# EAGLE library part TRRS-JACK (library Fuzzy)
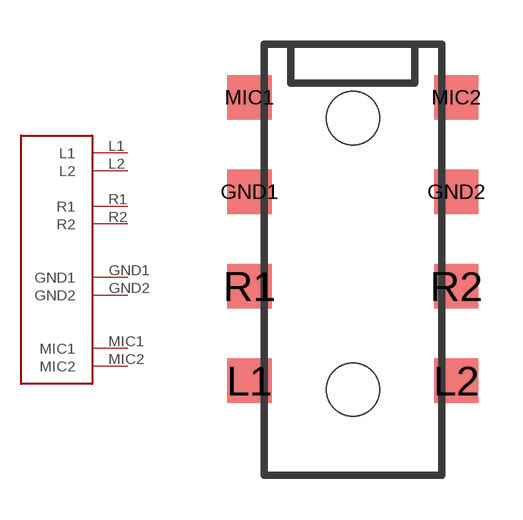
[diagram p7: symbol with the pads of TRRS-JACK; footprint TRRS-JACK]

Designator prefix -

## TRRS-JACK  [TRRS-JACK]
GND1  GND1
GND2  GND2
L1  L1
L2  L2
MIC1  MIC1
MIC2  MIC2
R1  R1
R2  R2

## Footprint TRRS-JACK (pad centres in mm)
smd 1.5 x 1.5: GND1 -3.5,2.3; GND2 3.5,2.3; L1 -3.5,-4.1; L2 3.5,-4.1; MIC1 -3.5,5.5; MIC2 3.5,5.5; R1 -3.5,-0.9; R2 3.5,-0.9
hole 1.8 at 0,4.8
hole 1.8 at 0,-4.4